# Altium footprint library Common_SMD.PcbLib: 74 footprints (part 3 of 5)
Each footprint in its own frame and in the unit in brackets; x right, y up, seen from the top. Pads: shape width x height; smd on the part's side, far side on the other; paste and mask are expansions set on the pad; w line width, h text height; cw(c..) or ccw(c..) is an arc to the next point about the centre after c.
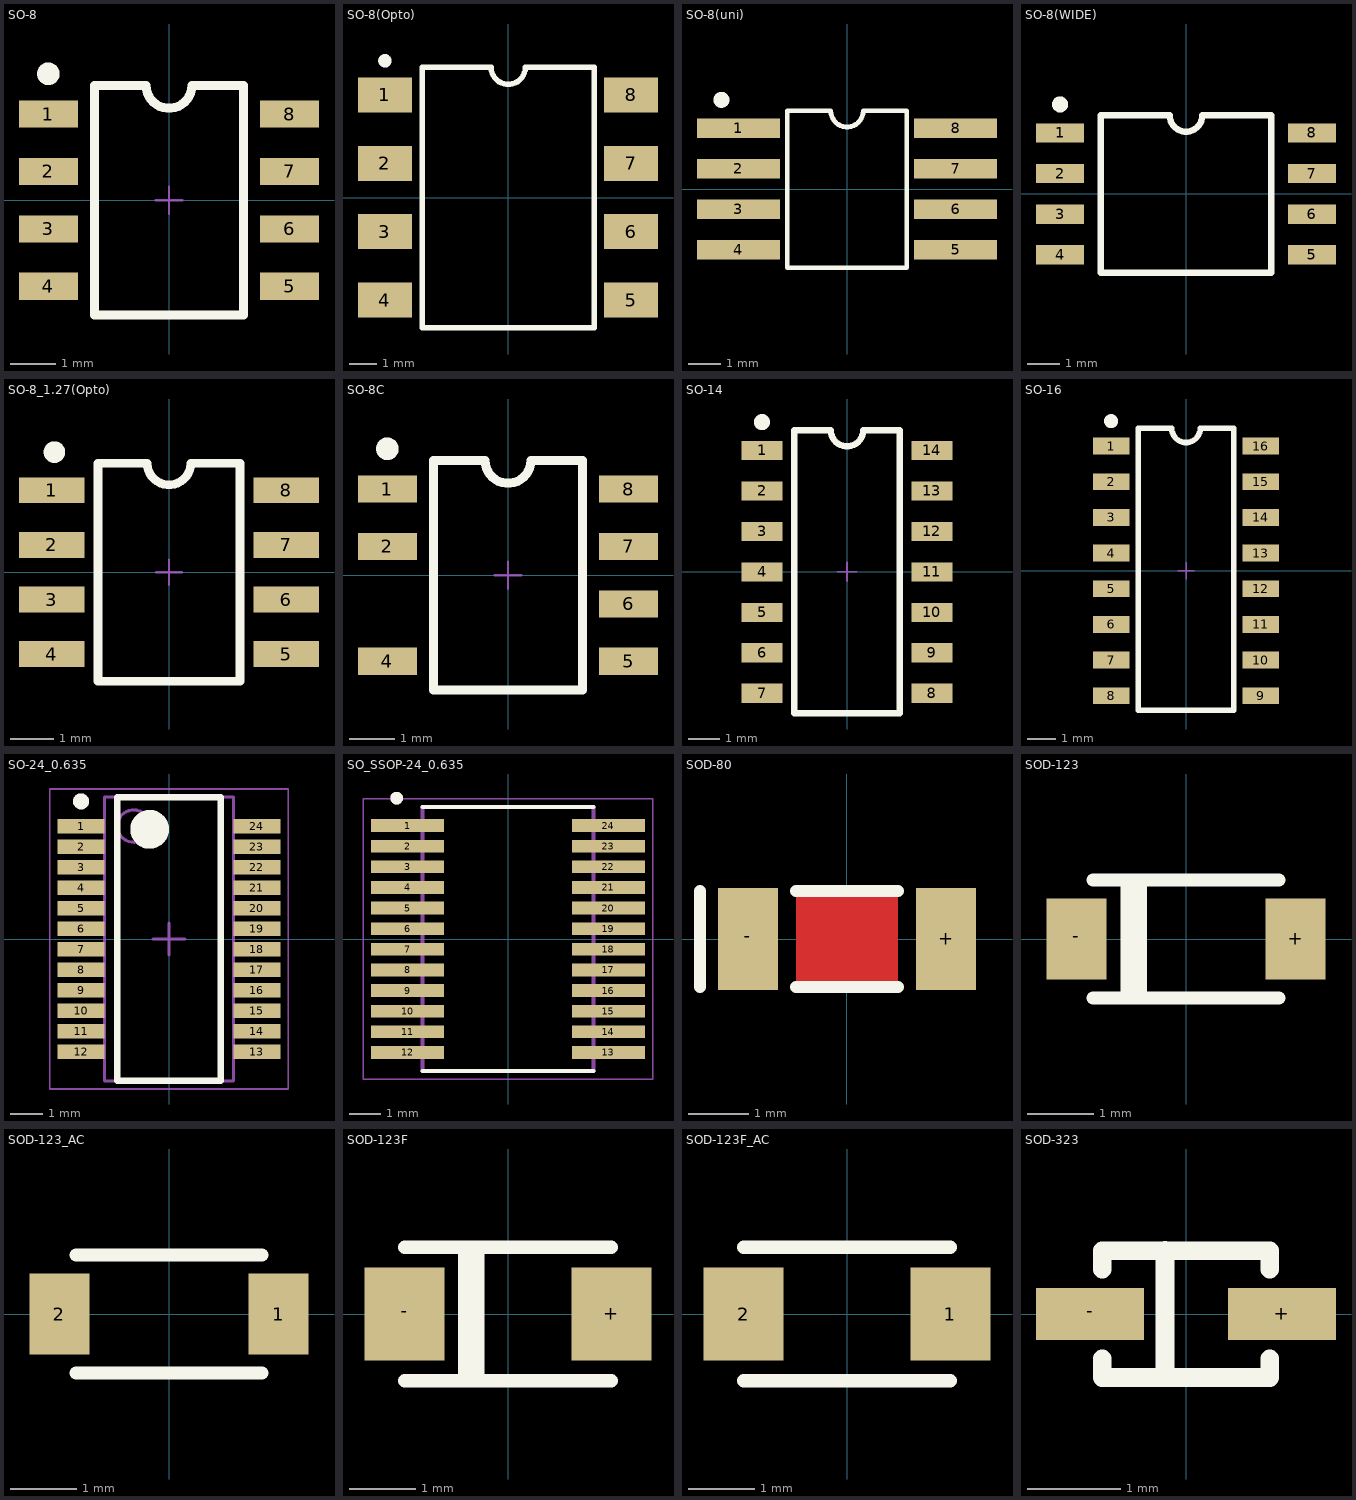
[diagram p2: the footprints below, top view; thin cyan lines are the x and y axes]

## SO-8 [mm] "SOIC, 8-Leads, Body 4.9x3.9mm, Pitch 1.27mm"
height 1.75
pads (8):
  rect 1.3x0.6 smd: 1(-2.667,1.905) 2(-2.667,0.635) 3(-2.667,-0.635) 4(-2.667,-1.905) 5(2.667,-1.905) 6(2.667,-0.635) 7(2.667,0.635) 8(2.667,1.905)
Top Overlay:
  circle w0.25: c-2.667,2.794 r0.125
  lines w0.2: -1.651,-2.54 1.651,-2.54 1.651,2.54 0.508,2.54 cw(c0,2.54) -0.508,2.54 -1.651,2.54 -1.651,-2.54
Mechanical 15:
  lines w0.05: -0.3,0 0.3,0 ; 0,-0.3 0,0.3
3D body "SO-8.STEP": height 1.45, standoff 0, extent -2.972,-2.45 2.972,2.452

## SO-8(Opto) [mm]
pads (8):
  rect 2x1.3 smd: 1(-4.572,3.81) 2(-4.572,1.27) 3(-4.572,-1.27) 4(-4.572,-3.81) 5(4.572,-3.81) 6(4.572,-1.27) 7(4.572,1.27) 8(4.572,3.81)
Top Overlay:
  circle w0.25: c-4.572,5.08 r0.125
  lines w0.2: -3.19,-4.84 3.21,-4.84 3.21,4.84 0.643,4.84 cw(c0.008,4.84) -0.627,4.84 -3.19,4.84 -3.19,-4.84
3D body "LTV-817S.STEP": height 3.88, standoff 0.01, extent -5.073,0.25 5.073,4.83
3D body "LTV-817S.STEP": height 3.88, standoff 0.01, extent -5.073,-2.29 5.073,2.29
3D body "LTV-817S.STEP": height 3.88, standoff 0.01, extent -5.073,-4.83 5.073,-0.25

## SO-8(uni) [mm]
pads (8):
  rect 2.6x0.6 smd: 1(-3.4,1.905) 2(-3.4,0.635) 3(-3.4,-0.635) 4(-3.4,-1.905) 5(3.4,-1.905) 6(3.4,-0.635) 7(3.4,0.635) 8(3.4,1.905)
Top Overlay:
  circle w0.25: c-3.935,2.794 r0.125
  lines w0.15: -1.875,-2.47 1.875,-2.47 1.875,2.45 0.508,2.45 cw(c0,2.45) -0.508,2.45 -1.875,2.45 -1.875,-2.47
3D body "SO-8W.STEP": height 1.95, standoff 0, extent -3.95,-2.65 3.95,2.65

## SO-8(WIDE) [mm]
pads (8):
  rect 1.5x0.6 smd: 1(-3.937,1.905) 2(-3.937,0.635) 3(-3.937,-0.635) 4(-3.937,-1.905) 5(3.937,-1.905) 6(3.937,-0.635) 7(3.937,0.635) 8(3.937,1.905)
Top Overlay:
  circle w0.25: c-3.935,2.794 r0.125
  lines w0.2: -2.667,-2.47 2.667,-2.47 2.667,2.45 0.508,2.45 cw(c0,2.45) -0.508,2.45 -2.667,2.45 -2.667,-2.47
3D body "SO-8W.STEP": height 1.95, standoff 0, extent -3.95,-2.65 3.95,2.65

## SO-8_1.27(Opto) [mm] "SOIC, 8-Leads, Body 4.9x3.9mm, Pitch 1.27mm"
height 3.63
pads (8):
  rect 1.52x0.6 smd: 1(-2.73,1.905) 2(-2.73,0.635) 3(-2.73,-0.635) 4(-2.73,-1.905) 5(2.73,-1.905) 6(2.73,-0.635) 7(2.73,0.635) 8(2.73,1.905)
Top Overlay:
  circle w0.25: c-2.667,2.794 r0.125
  lines w0.2: -1.651,-2.54 1.651,-2.54 1.651,2.54 0.508,2.54 cw(c0,2.54) -0.508,2.54 -1.651,2.54 -1.651,-2.54
Mechanical 15:
  lines w0.05: -0.3,0 0.3,0 ; 0,-0.3 0,0.3
3D body "HCPL-0600-500E.stp": height 3.71, standoff 0.1, extent -2.997,-2.54 2.997,2.54

## SO-8C [mm] "SOIC, 8-Leads, Body 4.9x3.9mm, Pitch 1.27mm"
height 1.75
pads (7):
  rect 1.3x0.6 smd: 1(-2.667,1.905) 2(-2.667,0.635) 4(-2.667,-1.905) 5(2.667,-1.905) 6(2.667,-0.635) 7(2.667,0.635) 8(2.667,1.905)
Top Overlay:
  circle w0.25: c-2.667,2.794 r0.125
  lines w0.2: -1.651,-2.54 -1.651,2.54 -0.508,2.54 ccw(c0,2.54) 0.508,2.54 1.651,2.54 1.651,-2.54 -1.651,-2.54
Mechanical 15:
  lines w0.05: -0.3,0 0.3,0 ; 0,-0.3 0,0.3
3D body "SO-8C.STEP": height 1.85, standoff 0.1, extent -3.1,-2.5 3.1,2.5

## SO-14 [mm] "SOIC, 14-Leads, Body 9.9x3.9mm, Pitch 1.27mm"
height 1.75
pads (14):
  rect 1.3x0.6 smd: 1(-2.667,3.81) 2(-2.667,2.54) 3(-2.667,1.27) 4(-2.667,0) 5(-2.667,-1.27) 6(-2.667,-2.54) 7(-2.667,-3.81) 8(2.667,-3.81) 9(2.667,-2.54) 10(2.667,-1.27) 11(2.667,0) 12(2.667,1.27) 13(2.667,2.54) 14(2.667,3.81)
Top Overlay:
  circle w0.25: c-2.667,4.699 r0.125
  lines w0.2: -1.651,-4.44 1.651,-4.44 1.651,4.445 0.508,4.445 cw(c0,4.445) -0.508,4.445 -1.651,4.445 -1.651,-4.44
Mechanical 15:
  lines w0.05: -0.3,0 0.3,0 ; 0,-0.3 0,0.3
3D body "SO14.STEP": height 1.78, standoff 0.01, extent -3.068,-4.35 3.069,4.35

## SO-16 [mm] "SOIC, 16-Leads, Body 9.9x3.9mm, Pitch 1.27mm"
height 1.75
pads (16):
  rect 1.3x0.6 smd: 1(-2.667,4.445) 2(-2.667,3.175) 3(-2.667,1.905) 4(-2.667,0.635) 5(-2.667,-0.635) 6(-2.667,-1.905) 7(-2.667,-3.175) 8(-2.667,-4.445) 9(2.667,-4.445) 10(2.667,-3.175) 11(2.667,-1.905) 12(2.667,-0.635) 13(2.667,0.635) 14(2.667,1.905) 15(2.667,3.175) 16(2.667,4.445)
Top Overlay:
  circle w0.25: c-2.667,5.334 r0.125
  lines w0.2: -1.7,-4.955 1.7,-4.955 1.7,5.08 0.508,5.08 cw(c0,5.08) -0.508,5.08 -1.7,5.08 -1.7,-4.955
Mechanical 15:
  lines w0.05: -0.3,0 0.3,0 ; 0,-0.3 0,0.3
3D body "SO16.STEP": height 1.7, standoff 0, extent -3,-5.1 3,5.1

## SO-24_0.635 [mm] "SOP, 24-Leads, Body 8,65x3,90mm, Pitch 0,64mm, IPC Medium Density"
height 1.75
pads (24):
  rect 1.45x0.45 smd: 1(-2.725,3.492) 2(-2.725,2.857) 3(-2.725,2.222) 4(-2.725,1.587) 5(-2.725,0.953) 6(-2.725,0.318) 7(-2.725,-0.318) 8(-2.725,-0.953) 9(-2.725,-1.587) 10(-2.725,-2.222) 11(-2.725,-2.857) 12(-2.725,-3.492) 13(2.725,-3.492) 14(2.725,-2.857) 15(2.725,-2.222) 16(2.725,-1.587) 17(2.725,-0.953) 18(2.725,-0.318) 19(2.725,0.318) 20(2.725,0.953) 21(2.725,1.587) 22(2.725,2.222) 23(2.725,2.857) 24(2.725,3.492)
Top Overlay:
  circle w0.25: c-2.725,4.267 r0.125
  circle w0.6: c-0.6,3.4 r0.3
  lines w0.2: -1.6,-4.4 -1.6,4.4 1.6,4.4 1.6,-4.4 -1.6,-4.4
Top Assembly:
  circle w0.1: c-1.1,3.5 r0.5
  lines w0.1: -2,-4.4 -2,4.4 2,4.4 2,-4.4 -2,-4.4
Top Courtyard:
  lines w0.05: -3.7,-4.65 -3.7,4.65 3.7,4.65 3.7,-4.65 -3.7,-4.65
  lines w0.1: -0.5,0 0.5,0 ; 0,-0.5 0,0.5
3D body "SO-8.STEP": height 1.45, standoff 0, extent -2.972,-4.038 2.972,0.865
3D body "SO-8.STEP": height 1.45, standoff 0, extent -2.972,-3.402 2.972,1.5
3D body "SO-8.STEP": height 1.45, standoff 0, extent -2.972,-0.902 2.972,4
3D body "SO-8.STEP": height 1.45, standoff 0, extent -2.972,-1.538 2.972,3.365

## SO_SSOP-24_0.635 [mm] "SOP, 24-Leads"
height 1.75
pads (24):
  rect 2.3x0.4 smd mask+0.08: 1(-3.16,3.575) 2(-3.16,2.925) 3(-3.16,2.275) 4(-3.16,1.625) 5(-3.16,0.975) 6(-3.16,0.325) 7(-3.16,-0.325) 8(-3.16,-0.975) 9(-3.16,-1.625) 10(-3.16,-2.275) 11(-3.16,-2.925) 12(-3.16,-3.575) 13(3.16,-3.575) 14(3.16,-2.925) 15(3.16,-2.275) 16(3.16,-1.625) 17(3.16,-0.975) 18(3.16,-0.325) 19(3.16,0.325) 20(3.16,0.975) 21(3.16,1.625) 22(3.16,2.275) 23(3.16,2.925) 24(3.16,3.575)
Top Overlay:
  circle w0.2: c-3.509,4.436 r0.1
  lines w0.127: -2.69,-4.165 2.69,-4.165 ; -2.69,4.165 2.69,4.165
Mechanical 13:
  circle w0.2: c-3.509,4.436 r0.1
  lines w0.127: -2.69,-4.165 -2.69,4.165 2.69,4.165 2.69,-4.165 -2.69,-4.165
Mechanical 15:
  lines w0.05: -4.56,-4.415 -4.56,4.415 4.56,4.415 4.56,-4.415 -4.56,-4.415
3D body "step_temp.STEP": height 1.99, standoff 0, extent -3.888,-4.1 3.888,4.1

## SOD-80 [mm] "MiniMELF SOD-80"
height 1.6
pads (2):
  rect 1x1.7 smd: +(1.65,0) -(-1.65,0)
Top Layer:
  pour cut-out: -0.85,0.8 0.85,0.8 0.85,-0.8 -0.85,-0.8
Top Overlay:
  lines w0.2: -2.45,-0.8 -2.45,0.8 ; -0.85,-0.8 0.85,-0.8 ; -0.85,0.8 0.85,0.8
3D body "MiniMelf-2.STEP": height 1.6, standoff 0, extent -1.93,-0.8 1.77,0.8

## SOD-123 [mm]
pads (2):
  rect 0.91x1.22 smd: +(1.651,0) -(-1.651,0)
Top Overlay:
  lines w0.2: -1.397,-0.889 1.397,-0.889 ; -1.397,0.889 1.397,0.889 ; -0.889,-0.889 -0.889,0.889 ; -0.689,-0.889 -0.689,0.889
3D body "SOD123-1.STEP": height 1.18, standoff 0, extent -1.951,-0.9 1.949,0.9

## SOD-123_AC [mm]
pads (2):
  rect 0.91x1.22 smd: 1(1.651,0) 2(-1.651,0)
Top Overlay:
  lines w0.2: -1.397,-0.889 1.397,-0.889 ; -1.397,0.889 1.397,0.889
3D body "SOD123-1.STEP": height 1.18, standoff 0, extent -1.951,-0.9 1.949,0.9

## SOD-123F [mm]
height 1.4
pads (2):
  rect 1.2x1.4 smd: +(1.55,0) -(-1.55,0)
Top Overlay:
  lines w0.2: -1.55,-1 1.55,-1 ; -1.55,1 1.55,1 ; -0.65,-1 -0.65,1 ; -0.45,-1 -0.45,1
3D body "SOD123-1.STEP": height 1.18, standoff 0, extent -1.85,-0.9 2.05,0.9

## SOD-123F_AC [mm]
height 1.4
pads (2):
  rect 1.2x1.4 smd: 1(1.55,0) 2(-1.55,0)
Top Overlay:
  lines w0.2: -1.55,-1 1.55,-1 ; -1.55,1 1.55,1
3D body "SOD123-1.STEP": height 1.18, standoff 0, extent -1.85,-0.9 2.05,0.9

## SOD-323 [mm] "Площадка для диода в корпусе SOD-323"
height 1
pads (2):
  rect 1.16x0.56 smd: +(1.03,0) -(-1.03,0)
Top Overlay:
  lines w0.2: -0.9,-0.48 -0.9,-0.68 0.9,-0.68 0.9,-0.48 ; -0.9,0.48 -0.9,0.68 0.9,0.68 0.9,0.48 ; -0.225,-0.678 -0.225,0.682
3D body "SOD-323.STEP": height 1.1, standoff 0, extent -1.3,-0.675 1.3,0.675